# Altium schematic symbol library LED - GENERIC.SchLib: 1 symbol
Pins are listed as number, name and electrical type; pins without a type are passive.

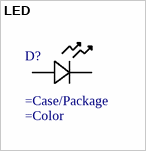
[diagram p0: symbol LED]

## LED
designator D?
Description; .Color: =Color; .Case/Package: =Case/Package
pins: 1, 2